# EAGLE library part 30M1878 (library MAÑE)
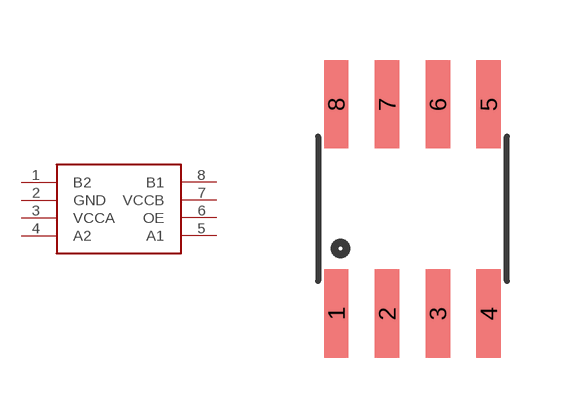
[diagram p1: symbol with the pads of SOIC8; footprint SOIC8]

Designator prefix -

## 30M1878  [SOIC8]
1  B2
2  GND
3  VCCA
4  A2
5  A1
6  OE
7  VCCB
8  B1

## Footprint SOIC8 (pad centres in mm)
smd 0.61 x 2.21: 1 -1.905,-2.616; 2 -0.635,-2.616; 3 0.635,-2.616; 4 1.905,-2.616; 5 1.905,2.616; 6 0.635,2.616; 7 -0.635,2.616; 8 -1.905,2.616